# EAGLE library part MCP4726_DAC (library Tristan_Robitaille's_Library)
8-/10-/12-Bit Voltage Output Digital-to-Analog Converter with EEPROM and I2C Interface Technical specifications: Voltage supply range: 2.7V to 5.5V Current consumption: 210µA # of I2C addresses: 8 Datasheet <http://ww1.microchip.com/downloads/en/DeviceDoc/22272C.pdf> Digi-Key part #: MCP4726A1T-E/CHCT-ND <http://www.digikey.ca/product-detail/en/microchip-technology/MCP4726A1T-E-CH/MCP4726A1T-E-CHCT-ND/5148848> Mouser part #: 579-MCP4726A1TECH <http://ca.mouser.com/ProductDetail/Microchip/MCP4726A1T-E-CH/?qs=%2fha2pyFaduiJDP0ar9pOLROzmum%252bw6qCDwtsAYIPjs7RcnRL1loeZg%3d%3d> Manufacturer part #: MCP4726A1T-E/CH
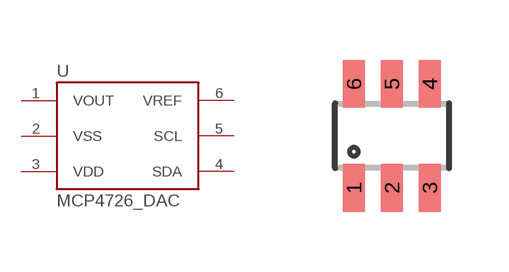
[diagram p24: symbol with the pads of SOT23-6L; footprint SOT23-6L]

Designator prefix U

## MCP4726_DAC (DIGIKEY#: MCP4726A1T-E/CHCT-ND; MANF: MCP4726 I2C DAC; MANF#: MCP4726A1T-E/CH; MOUSER#: 579-MCP4726A1TECH)  [SOT23-6L]
1  VOUT  out
2  VSS  pwr
3  VDD  pwr
4  SDA
5  SCL  in
6  VREF  in

## Footprint SOT23-6L (pad centres in mm)
Small Outline Transistor
smd 0.55 x 1.2: 1 -0.95,-1.3; 2 0,-1.3; 3 0.95,-1.3; 4 0.95,1.3; 5 0,1.3; 6 -0.95,1.3